# Altium schematic symbol library 1Connector.SchLib: 1 symbol
Pins are listed as number, name and electrical type; pins without a type are passive.

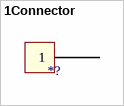
[diagram p0: symbol 1Connector]

## 1Connector
designator *, comment *?
footprint 1Connector
pins: 1